# Altium footprint library lianchen_lib.PcbLib: 233 footprints (part 3 of 15)
Each footprint in its own frame and in the unit in brackets; x right, y up, seen from the top. Pads: shape width x height; smd on the part's side, far side on the other; paste and mask are expansions set on the pad; w line width, h text height; cw(c..) or ccw(c..) is an arc to the next point about the centre after c.
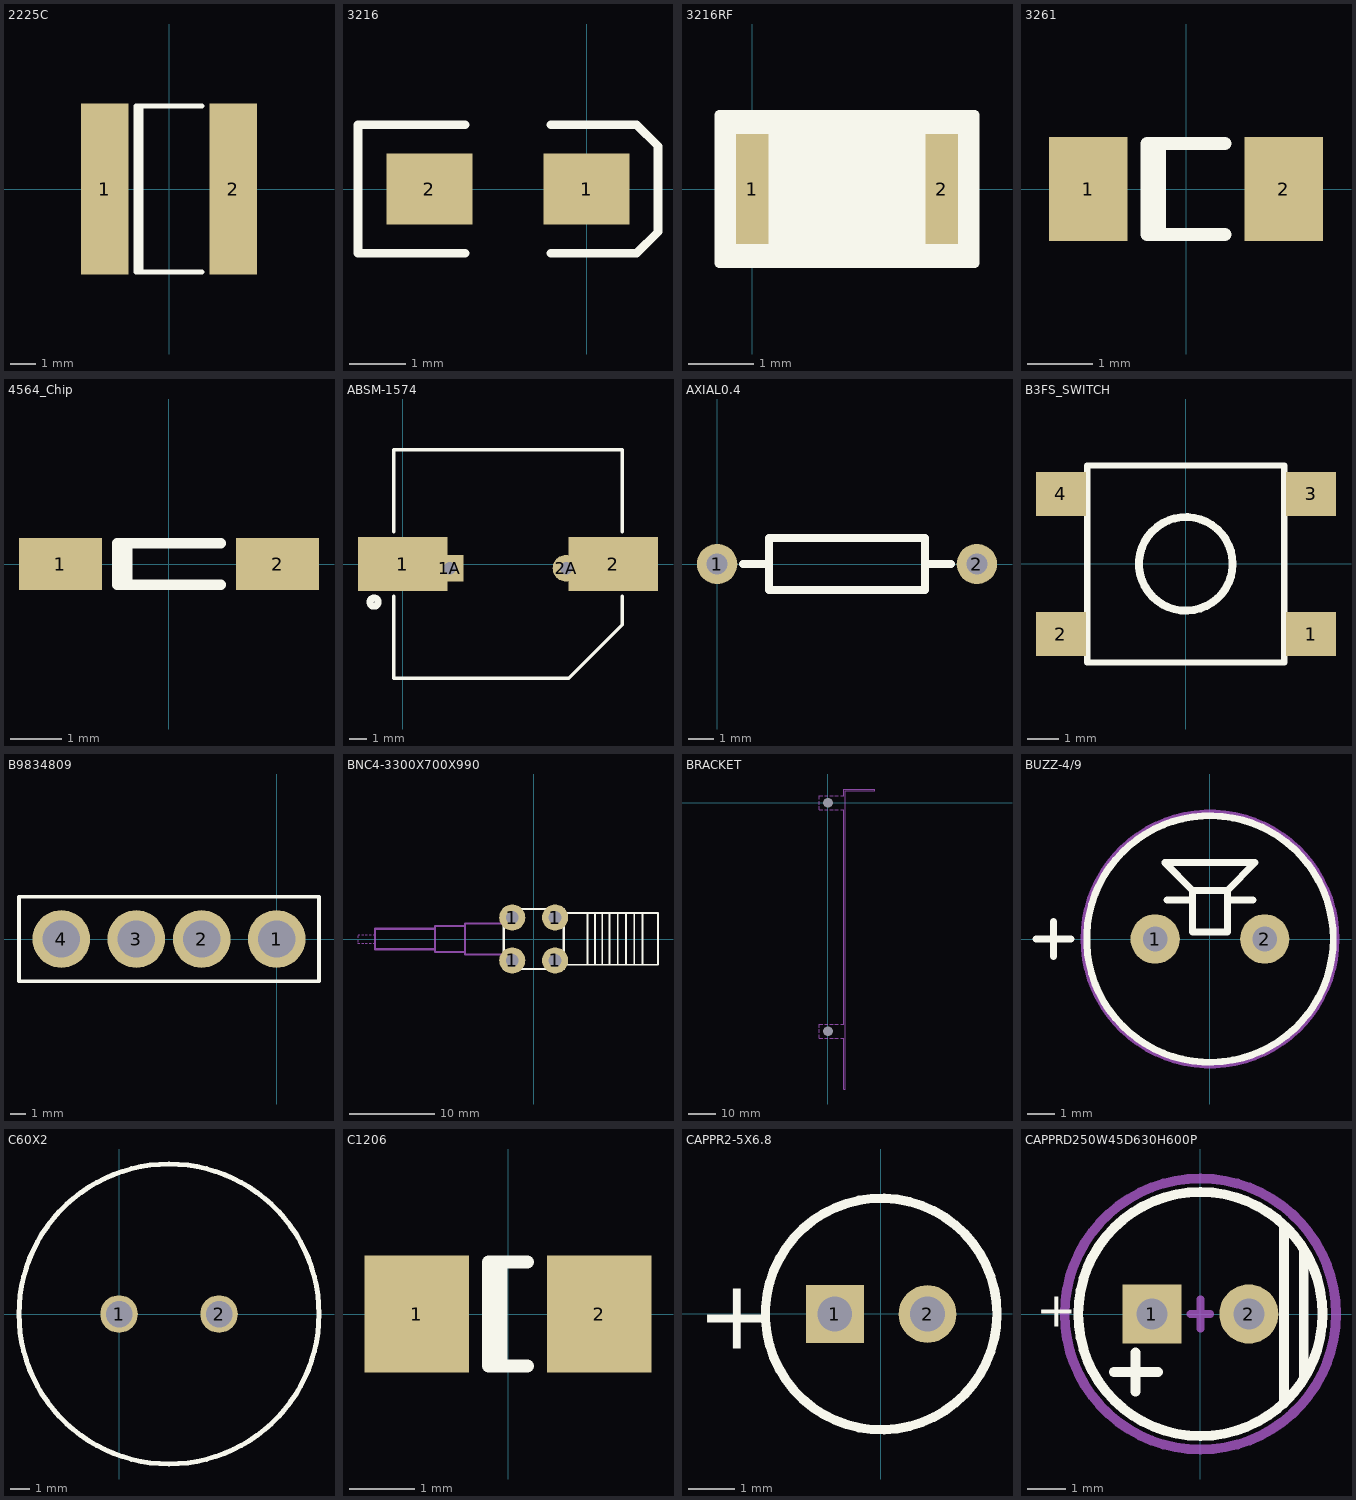
[diagram p2: the footprints below, top view; thin cyan lines are the x and y axes]

## 2225C [mm] "Chip Capacitor; Body 5.6 x 6.4 mm (LxW typ)"
height 1.1
pads (2):
  rect 1.9x6.8 smd: 1(-2.55,0) 2(2.55,0)
Top Overlay:
  lines w0.2: -1.11,-3.3 -1.11,3.3 ; 1.3,-3.3 -1.3,-3.3 -1.3,3.3 1.3,3.3

## 3216 [mil]
pads (2):
  rect 60x50 smd: 1(0.01,0) 2(-109.99,0)
Top Overlay:
  lines w6: -84.99,-45 -159.99,-45 -159.99,45 -84.99,45 ; -24.99,-45 35.01,-45 50.01,-30 50.01,30 35.01,45 -24.99,45

## 3216RF [mm]
pads (2):
  rect 0.5x1.7 smd: 1(0,0) 2(2.921,0)
Top Overlay:
  pour cut-out: -0.508,-1.143 -0.508,1.143 3.429,1.143 3.429,-1.143
  lines w0.152: -0.508,-1.143 2.159,-1.143 3.429,-1.143 3.429,1.143 2.159,1.143 -0.508,1.143 -0.508,-1.143

## 3261 [mm] "3216 Chip; Chip Inductor; Body 3.2 x 1.6 mm (LxW typ)"
height 0.55
pads (2):
  rect 1.2x1.6 smd: 1(-1.5,0) 2(1.5,0)
Top Overlay:
  lines w0.2: -0.41,-0.7 -0.41,0.7 ; 0.6,-0.7 -0.6,-0.7 -0.6,0.7 0.6,0.7

## 4564_Chip [mm] "4564 Chip; Chip Inductor; Body 4.5 x 6.4 mm (LxW typ)"
height 0.55
pads (2):
  rect 1.6x1 smd: 1(-2.1,0) 2(2.1,0)
Top Overlay:
  lines w0.2: -0.81,-0.4 -0.81,0.4 ; 1,-0.4 -1,-0.4 -1,0.4 1,0.4

## ABSM-1574 [mm]
pads (4):
  rect 5x3 smd: 1(0,0) 2(11.8,0)
  rect 1.5x1.5 hole 0.7: 1A(2.65,-0.24)
  round 1.5 hole 0.7: 2A(9.15,-0.24)
Top Overlay:
  circle w0.4: c-1.6,-2.134 r0.227
  lines w0.2: -0.5,-1.8 -0.5,-6.4 9.3,-6.4 12.3,-3.4 12.3,-1.8 ; -0.5,1.8 -0.5,6.4 12.3,6.4 12.3,1.8

## AXIAL0.4 [mil]
pads (2):
  round 62 hole 32: 1(0,0) 2(400,0)
Top Overlay:
  lines w12: 40,0 80,0 ; 320,0 360,0 ; 80,-40 320,-40 320,40 80,40 80,-40

## B3FS_SWITCH [mm]
pads (4):
  rect 1.6x1.4 smd: 1(4.01,-2.25) 2(-4,-2.25) 3(4.01,2.24) 4(-4,2.24)
Top Overlay:
  circle w0.254: c0,0 r1.5
  lines w0.2: -3.16,-3.16 3.15,-3.16 3.15,3.15 -3.16,3.15 -3.16,-3.16

## B9834809 [mil]
pads (4):
  round 150 hole 97: 1(0,0) 2(-195,0) 3(-365,0) 4(-560,0)
Top Overlay:
  lines w10: -670,-110 110,-110 110,110 -670,110 -670,-110

## BNC4-3300X700X990 [mm] "Wifi天线插座"
height 9.9
pads (4):
  round 3.048 hole 1.5: 1(-2.5,-2.5) 1(-2.5,2.5) 1(2.5,-2.5) 1(2.5,2.5)
Top Overlay:
  lines w0.203: 3.5,-2.997 14.5,-2.997 14.5,3.023 3.5,3.023 ; 6.274,-3 6.274,3 ; 7.163,-2.997 7.163,3.023 ; 8.001,-2.997 8.001,3.023 ; 8.839,-2.997 8.839,3.023 ; 9.804,-2.997 9.804,3.023 ; 10.77,-2.997 10.77,3.023 ; 11.735,-2.997 11.735,3.023 ; 12.7,-2.997 12.7,3.023
  lines w0.254: -3.5,-3.5 3.5,-3.5 3.5,3.5 -3.5,3.5 -3.5,-3.5
Mechanical 15:
  lines w0.102: -20.5,-0.492 -20.269,-0.492 ; -20.498,-0.356 -20.498,-0.127 ; -20.498,0.127 -20.498,0.356 ; -20.498,0.508 -20.269,0.508 ; -20.068,-0.492 -19.84,-0.492 ; -20.066,0.508 -19.837,0.508 ; -19.636,-0.492 -19.408,-0.492 ; -19.634,0.508 -19.406,0.508 ; -19.205,-0.492 -18.976,-0.492 ; -19.202,0.508 -18.974,0.508 ; -18.747,-0.492 -18.519,-0.492 ; -18.745,0.508 -18.517,0.508
  lines w0.254: -11.5,-1.2 -18.5,-1.2 -18.5,0 -18.5,1.2 -11.5,1.2 ; -8,-1.5 -11.5,-1.5 -11.5,0 -11.5,1.5 -8,1.5 ; -3.503,-1.8 -8,-1.8 -8,0 -8,1.8 -3.503,1.8
  text "该层框线位置限高5mm" at -17.907,-2.54 h0.91
  text "考虑线的硬度和长度" at -17.907,-0.254 h0.91

## BRACKET [mil]
pads (2):
  round 50 hole 140: 2(0,-3300) 3(0,0)
Mechanical 3:
  lines w10: -125,-3350 -125,-3400 -75,-3400 ; -125,-3325 -125,-3275 ; -125,-3250 -125,-3200 -75,-3200 ; -125,-50 -125,-100 -75,-100 ; -125,-25 -125,25 ; -125,50 -125,100 -75,100 ; -50,-3400 0,-3400 ; -50,-3200 0,-3200 ; -50,-100 0,-100 ; -50,100 0,100 ; 25,-3400 75,-3400 ; 25,-3200 75,-3200 ; 25,-100 75,-100 ; 25,100 75,100 ; 100,-3400 150,-3400 ; 100,-3200 150,-3200 ; 100,-100 150,-100 ; 100,100 150,100 ; 185,-3400 225,-3400 225,-4135 250,-4135 250,175 675,175 675,200 225,200 225,100 185,100 ; 185,-3200 225,-3200 225,-100 185,-100

## BUZZ-4/9 [mm]
height 5
pads (2):
  round 1.8 hole 0.9: 1(-2,0) 2(2,0)
Top Overlay:
  circle w0.254: c0,0 r4.5
  lines w0.254: -6.35,0 -5.08,0 ; -5.715,-0.635 -5.715,0.635 ; -1.575,1.424 -0.635,1.424 ; 0.635,1.424 1.575,1.424 ; -0.635,1.778 -0.635,0.254 0.635,0.254 0.635,1.778 ; -0.635,1.778 -1.651,2.794 1.651,2.794 0.635,1.778 ; -0.635,1.778 0.635,1.778
Mechanical 15:
  circle w0.254: c0,0 r4.6

## C60X2 [mil]
pads (2):
  round 75 hole 53: 1(0,0) 2(200,0)
Top Overlay:
  circle w10: c100,0 r300

## C1206 [mm]
pads (2):
  rect 1.6x1.8 smd: 1(-1.4,0) 2(1.4,0)
Top Overlay:
  lines w0.2: -0.11,-0.8 -0.11,0.8 ; 0.3,-0.8 -0.3,-0.8 -0.3,0.8 0.3,0.8

## CAPPR2-5X6.8 [mm]
pads (2):
  rect 1.25x1.25 hole 0.75: 1(-0.994,-0.009)
  round 1.25 hole 0.75: 2(1.006,-0.009)
Top Overlay:
  circle w0.2: c0.006,-0.009 r2.5
  text "+" at -3.969,-0.759 h1.5
3D body: height 10.16, standoff 0, extent -2.493,-2.508 2.506,2.49

## CAPPRD250W45D630H600P [mm]
height 6
pads (2):
  rect 1.524x1.524 hole 0.8: 1(-1.25,0)
  round 1.524 hole 0.8: 2(1.25,0)
Top Overlay:
  circle w0.254: c0,0 r3.15
  lines w0.254: -2.235,-1.499 -1.092,-1.499 ; -1.676,-2.007 -1.676,-0.991 ; 2.159,-2.311 2.159,2.261 ; 2.667,-1.676 2.667,1.626
  text "+" at -4.242,-0.33 h0.91
Mechanical 15:
  circle w0.254: c0,0 r3.5
  lines w0.203: -0.254,0 0,0 ; 0,-0.381 0,0 ; 0,0.381 0,0 ; 0.254,0 0,0
3D body "Radial Capacitor 6.3mm(D) x 11mm(L) 2.5 mm lead spacing.STEP": height 11.5, standoff -18.5, extent -3.15,-3.15 3.15,3.15